# Altium schematic symbol library BUZZER CEM-1203.Schlib: 1 symbol
Pins are listed as number, name and electrical type; pins without a type are passive.

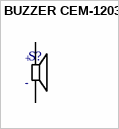
[diagram p0: symbol BUZZER CEM-1203]

## BUZZER CEM-1203
designator S?  (value not drawn)
AUDIO MAGNETIC XDCR 3-5V TH
pins: N, P
text: +; -